# EAGLE library part FMC-LPC160 (library samtec-fmc)
ASP-134604-01 FMC Connector, lead free, (LPC), 160 I/O, male 10 mm ASP-134606-01 FMC Connector, lead free, (LPC), 160 I/O, male 8.50 mm
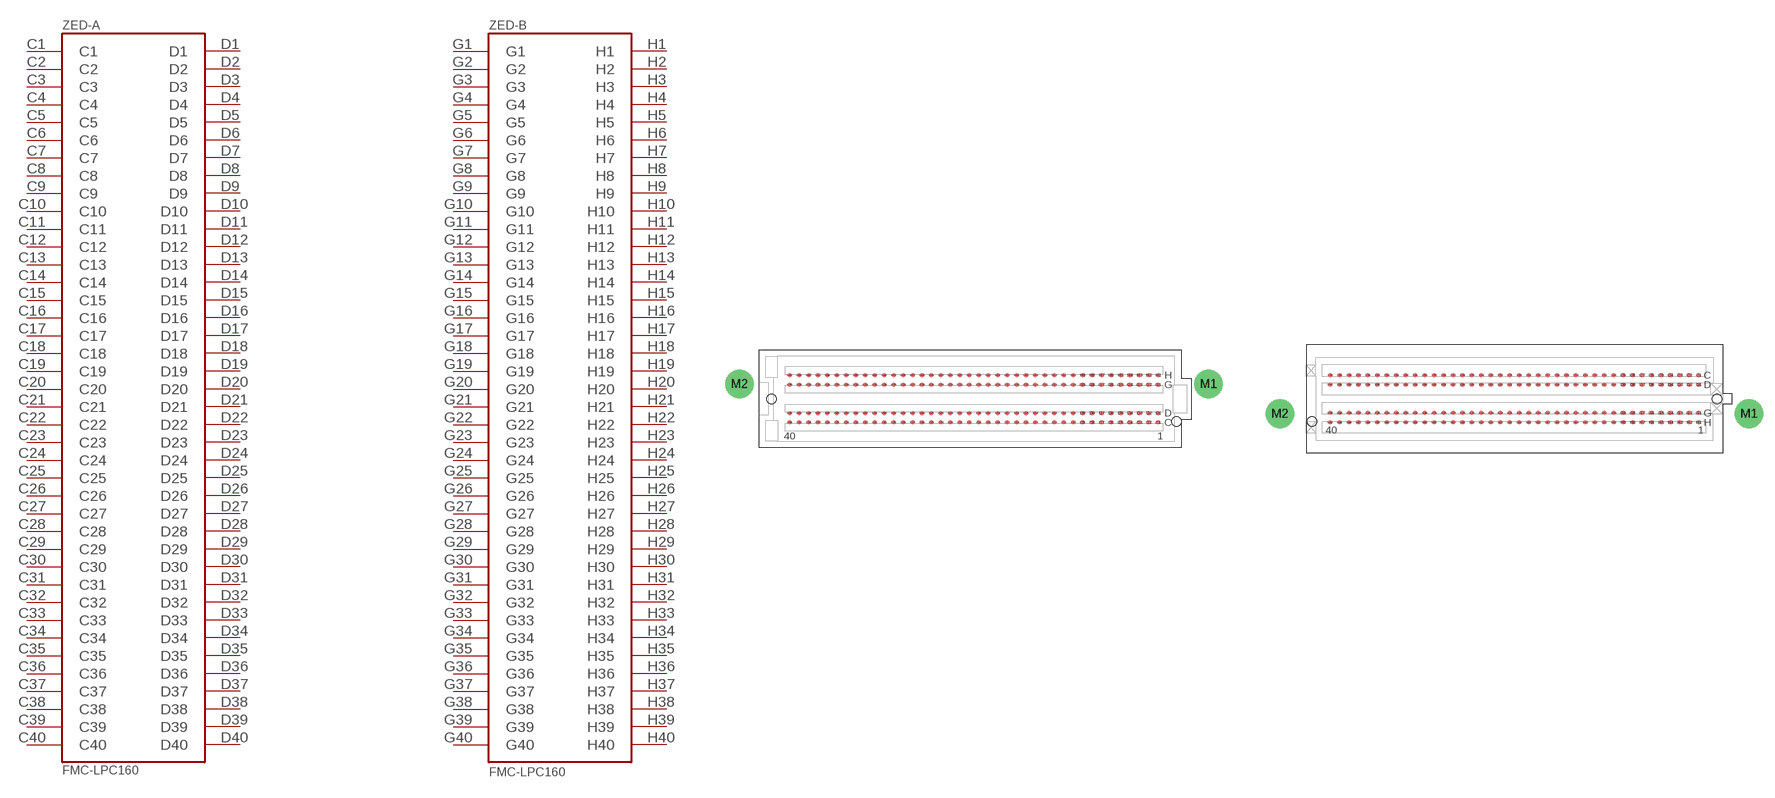
[diagram p0: symbol with the pads of ASP-134603-01; footprints ASP-134603-01, ASP-134604-01]

Designator prefix ZED; gates -A=BANK-80P-CD -B=BANK-80P-GH

## FMC-LPC160-FEMALE  [ASP-134603-01]
C1  -A:C1
C2  -A:C2
C3  -A:C3
C4  -A:C4
C5  -A:C5
C6  -A:C6
C7  -A:C7
C8  -A:C8
C9  -A:C9
C10  -A:C10
C11  -A:C11
C12  -A:C12
C13  -A:C13
C14  -A:C14
C15  -A:C15
C16  -A:C16
C17  -A:C17
C18  -A:C18
C19  -A:C19
C20  -A:C20
C21  -A:C21
C22  -A:C22
C23  -A:C23
C24  -A:C24
C25  -A:C25
C26  -A:C26
C27  -A:C27
C28  -A:C28
C29  -A:C29
C30  -A:C30
C31  -A:C31
C32  -A:C32
C33  -A:C33
C34  -A:C34
C35  -A:C35
C36  -A:C36
C37  -A:C37
C38  -A:C38
C39  -A:C39
C40  -A:C40
D1  -A:D1
D2  -A:D2
D3  -A:D3
D4  -A:D4
D5  -A:D5
D6  -A:D6
D7  -A:D7
D8  -A:D8
D9  -A:D9
D10  -A:D10
D11  -A:D11
D12  -A:D12
D13  -A:D13
D14  -A:D14
D15  -A:D15
D16  -A:D16
D17  -A:D17
D18  -A:D18
D19  -A:D19
D20  -A:D20
D21  -A:D21
D22  -A:D22
D23  -A:D23
D24  -A:D24
D25  -A:D25
D26  -A:D26
D27  -A:D27
D28  -A:D28
D29  -A:D29
D30  -A:D30
D31  -A:D31
D32  -A:D32
D33  -A:D33
D34  -A:D34
D35  -A:D35
D36  -A:D36
D37  -A:D37
D38  -A:D38
D39  -A:D39
D40  -A:D40
G1  -B:G1
G2  -B:G2
G3  -B:G3
G4  -B:G4
G5  -B:G5
G6  -B:G6
G7  -B:G7
G8  -B:G8
G9  -B:G9
G10  -B:G10
G11  -B:G11
G12  -B:G12
G13  -B:G13
G14  -B:G14
G15  -B:G15
G16  -B:G16
G17  -B:G17
G18  -B:G18
G19  -B:G19
G20  -B:G20
G21  -B:G21
G22  -B:G22
G23  -B:G23
G24  -B:G24
G25  -B:G25
G26  -B:G26
G27  -B:G27
G28  -B:G28
G29  -B:G29
G30  -B:G30
G31  -B:G31
G32  -B:G32
G33  -B:G33
G34  -B:G34
G35  -B:G35
G36  -B:G36
G37  -B:G37
G38  -B:G38
G39  -B:G39
G40  -B:G40
H1  -B:H1
H2  -B:H2
H3  -B:H3
H4  -B:H4
H5  -B:H5
H6  -B:H6
H7  -B:H7
H8  -B:H8
H9  -B:H9
H10  -B:H10
H11  -B:H11
H12  -B:H12
H13  -B:H13
H14  -B:H14
H15  -B:H15
H16  -B:H16
H17  -B:H17
H18  -B:H18
H19  -B:H19
H20  -B:H20
H21  -B:H21
H22  -B:H22
H23  -B:H23
H24  -B:H24
H25  -B:H25
H26  -B:H26
H27  -B:H27
H28  -B:H28
H29  -B:H29
H30  -B:H30
H31  -B:H31
H32  -B:H32
H33  -B:H33
H34  -B:H34
H35  -B:H35
H36  -B:H36
H37  -B:H37
H38  -B:H38
H39  -B:H39
H40  -B:H40

## FMC-LPC160-MALE  [ASP-134604-01]
Pads as for ASP-134603-01

## Footprint ASP-134603-01 (pad centres in mm)
smd 0.635 x 0.635: C1 24.765,-3.175; C2 23.495,-3.175; C3 22.225,-3.175; C4 20.955,-3.175; C5 19.685,-3.175; C6 18.415,-3.175; C7 17.145,-3.175; C8 15.875,-3.175; C9 14.605,-3.175; C10 13.335,-3.175; C11 12.065,-3.175; C12 10.795,-3.175; C13 9.525,-3.175; C14 8.255,-3.175; C15 6.985,-3.175; C16 5.715,-3.175; C17 4.445,-3.175; C18 3.175,-3.175; C19 1.905,-3.175; C20 0.635,-3.175; C21 -0.635,-3.175; C22 -1.905,-3.175; C23 -3.175,-3.175; C24 -4.445,-3.175; C25 -5.715,-3.175; C26 -6.985,-3.175; C27 -8.255,-3.175; C28 -9.525,-3.175; C29 -10.795,-3.175; C30 -12.065,-3.175; C31 -13.335,-3.175; C32 -14.605,-3.175; C33 -15.875,-3.175; C34 -17.145,-3.175; C35 -18.415,-3.175; C36 -19.685,-3.175; C37 -20.955,-3.175; C38 -22.225,-3.175; C39 -23.495,-3.175; C40 -24.765,-3.175; D1 24.765,-1.905; D2 23.495,-1.905; D3 22.225,-1.905; D4 20.955,-1.905; D5 19.685,-1.905; D6 18.415,-1.905; D7 17.145,-1.905; D8 15.875,-1.905; D9 14.605,-1.905; D10 13.335,-1.905; D11 12.065,-1.905; D12 10.795,-1.905; D13 9.525,-1.905; D14 8.255,-1.905; D15 6.985,-1.905; D16 5.715,-1.905; D17 4.445,-1.905; D18 3.175,-1.905; D19 1.905,-1.905; D20 0.635,-1.905; D21 -0.635,-1.905; D22 -1.905,-1.905; D23 -3.175,-1.905; D24 -4.445,-1.905; D25 -5.715,-1.905; D26 -6.985,-1.905; D27 -8.255,-1.905; D28 -9.525,-1.905; D29 -10.795,-1.905; D30 -12.065,-1.905; D31 -13.335,-1.905; D32 -14.605,-1.905; D33 -15.875,-1.905; D34 -17.145,-1.905; D35 -18.415,-1.905; D36 -19.685,-1.905; D37 -20.955,-1.905; D38 -22.225,-1.905; D39 -23.495,-1.905; D40 -24.765,-1.905; G1 24.765,1.905; G2 23.495,1.905; G3 22.225,1.905; G4 20.955,1.905; G5 19.685,1.905; G6 18.415,1.905; G7 17.145,1.905; G8 15.875,1.905; G9 14.605,1.905; G10 13.335,1.905; G11 12.065,1.905; G12 10.795,1.905; G13 9.525,1.905; G14 8.255,1.905; G15 6.985,1.905; G16 5.715,1.905; G17 4.445,1.905; G18 3.175,1.905; G19 1.905,1.905; G20 0.635,1.905; G21 -0.635,1.905; G22 -1.905,1.905; G23 -3.175,1.905; G24 -4.445,1.905; G25 -5.715,1.905; G26 -6.985,1.905; G27 -8.255,1.905; G28 -9.525,1.905; G29 -10.795,1.905; G30 -12.065,1.905; G31 -13.335,1.905; G32 -14.605,1.905; G33 -15.875,1.905; G34 -17.145,1.905; G35 -18.415,1.905; G36 -19.685,1.905; G37 -20.955,1.905; G38 -22.225,1.905; G39 -23.495,1.905; G40 -24.765,1.905; H1 24.765,3.175; H2 23.495,3.175; H3 22.225,3.175; H4 20.955,3.175; H5 19.685,3.175; H6 18.415,3.175; H7 17.145,3.175; H8 15.875,3.175; H9 14.605,3.175; H10 13.335,3.175; H11 12.065,3.175; H12 10.795,3.175; H13 9.525,3.175; H14 8.255,3.175; H15 6.985,3.175; H16 5.715,3.175; H17 4.445,3.175; H18 3.175,3.175; H19 1.905,3.175; H20 0.635,3.175; H21 -0.635,3.175; H22 -1.905,3.175; H23 -3.175,3.175; H24 -4.445,3.175; H25 -5.715,3.175; H26 -6.985,3.175; H27 -8.255,3.175; H28 -9.525,3.175; H29 -10.795,3.175; H30 -12.065,3.175; H31 -13.335,3.175; H32 -14.605,3.175; H33 -15.875,3.175; H34 -17.145,3.175; H35 -18.415,3.175; H36 -19.685,3.175; H37 -20.955,3.175; H38 -22.225,3.175; H39 -23.495,3.175; H40 -24.765,3.175
drill 2.75 pad 3.85: M1 31.5,2; M2 -31.5,2
hole 1.27 at -27.191,0
hole 1.27 at 27.191,-3.048

## Footprint ASP-134604-01 (pad centres in mm)
smd 0.635 x 0.635: C1 24.765,3.175; C2 23.495,3.175; C3 22.225,3.175; C4 20.955,3.175; C5 19.685,3.175; C6 18.415,3.175; C7 17.145,3.175; C8 15.875,3.175; C9 14.605,3.175; C10 13.335,3.175; C11 12.065,3.175; C12 10.795,3.175; C13 9.525,3.175; C14 8.255,3.175; C15 6.985,3.175; C16 5.715,3.175; C17 4.445,3.175; C18 3.175,3.175; C19 1.905,3.175; C20 0.635,3.175; C21 -0.635,3.175; C22 -1.905,3.175; C23 -3.175,3.175; C24 -4.445,3.175; C25 -5.715,3.175; C26 -6.985,3.175; C27 -8.255,3.175; C28 -9.525,3.175; C29 -10.795,3.175; C30 -12.065,3.175; C31 -13.335,3.175; C32 -14.605,3.175; C33 -15.875,3.175; C34 -17.145,3.175; C35 -18.415,3.175; C36 -19.685,3.175; C37 -20.955,3.175; C38 -22.225,3.175; C39 -23.495,3.175; C40 -24.765,3.175; D1 24.765,1.905; D2 23.495,1.905; D3 22.225,1.905; D4 20.955,1.905; D5 19.685,1.905; D6 18.415,1.905; D7 17.145,1.905; D8 15.875,1.905; D9 14.605,1.905; D10 13.335,1.905; D11 12.065,1.905; D12 10.795,1.905; D13 9.525,1.905; D14 8.255,1.905; D15 6.985,1.905; D16 5.715,1.905; D17 4.445,1.905; D18 3.175,1.905; D19 1.905,1.905; D20 0.635,1.905; D21 -0.635,1.905; D22 -1.905,1.905; D23 -3.175,1.905; D24 -4.445,1.905; D25 -5.715,1.905; D26 -6.985,1.905; D27 -8.255,1.905; D28 -9.525,1.905; D29 -10.795,1.905; D30 -12.065,1.905; D31 -13.335,1.905; D32 -14.605,1.905; D33 -15.875,1.905; D34 -17.145,1.905; D35 -18.415,1.905; D36 -19.685,1.905; D37 -20.955,1.905; D38 -22.225,1.905; D39 -23.495,1.905; D40 -24.765,1.905; G1 24.765,-1.905; G2 23.495,-1.905; G3 22.225,-1.905; G4 20.955,-1.905; G5 19.685,-1.905; G6 18.415,-1.905; G7 17.145,-1.905; G8 15.875,-1.905; G9 14.605,-1.905; G10 13.335,-1.905; G11 12.065,-1.905; G12 10.795,-1.905; G13 9.525,-1.905; G14 8.255,-1.905; G15 6.985,-1.905; G16 5.715,-1.905; G17 4.445,-1.905; G18 3.175,-1.905; G19 1.905,-1.905; G20 0.635,-1.905; G21 -0.635,-1.905; G22 -1.905,-1.905; G23 -3.175,-1.905; G24 -4.445,-1.905; G25 -5.715,-1.905; G26 -6.985,-1.905; G27 -8.255,-1.905; G28 -9.525,-1.905; G29 -10.795,-1.905; G30 -12.065,-1.905; G31 -13.335,-1.905; G32 -14.605,-1.905; G33 -15.875,-1.905; G34 -17.145,-1.905; G35 -18.415,-1.905; G36 -19.685,-1.905; G37 -20.955,-1.905; G38 -22.225,-1.905; G39 -23.495,-1.905; G40 -24.765,-1.905; H1 24.765,-3.175; H2 23.495,-3.175; H3 22.225,-3.175; H4 20.955,-3.175; H5 19.685,-3.175; H6 18.415,-3.175; H7 17.145,-3.175; H8 15.875,-3.175; H9 14.605,-3.175; H10 13.335,-3.175; H11 12.065,-3.175; H12 10.795,-3.175; H13 9.525,-3.175; H14 8.255,-3.175; H15 6.985,-3.175; H16 5.715,-3.175; H17 4.445,-3.175; H18 3.175,-3.175; H19 1.905,-3.175; H20 0.635,-3.175; H21 -0.635,-3.175; H22 -1.905,-3.175; H23 -3.175,-3.175; H24 -4.445,-3.175; H25 -5.715,-3.175; H26 -6.985,-3.175; H27 -8.255,-3.175; H28 -9.525,-3.175; H29 -10.795,-3.175; H30 -12.065,-3.175; H31 -13.335,-3.175; H32 -14.605,-3.175; H33 -15.875,-3.175; H34 -17.145,-3.175; H35 -18.415,-3.175; H36 -19.685,-3.175; H37 -20.955,-3.175; H38 -22.225,-3.175; H39 -23.495,-3.175; H40 -24.765,-3.175
drill 2.75 pad 3.85: M1 31.5,-2; M2 -31.5,-2
hole 1.27 at 27.191,0
hole 1.27 at -27.191,-3.048